# EAGLE library part HMC394LP4 (library microwave)
GaAs HBT PROGRAMMABLE 5-BIT COUNTER, DC - 2.2 GHz Source: http://www.hittite.com/product_info/product_specs/dividersdetectors/hmc394lp4.pdf
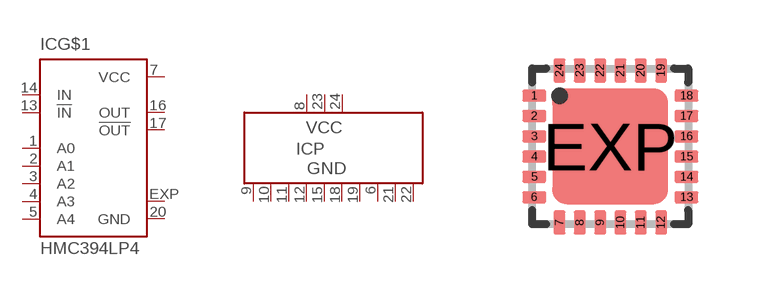
[diagram p0: symbol with the pads of QFN24; footprint QFN24]

Designator prefix IC; gates G$1=HMC394LP4 P=P3VCC10GND

## HMC394LP4  [QFN24]
1  G$1:A0  in
2  G$1:A1  in
3  G$1:A2  in
4  G$1:A3  in
5  G$1:A4  in
6  P:GND  pwr
7  G$1:VCC  pwr
8  P:VCC  pwr
9  P:GND  pwr
10  P:GND  pwr
11  P:GND  pwr
12  P:GND  pwr
13  G$1:!IN  in
14  G$1:IN  in
15  P:GND  pwr
16  G$1:OUT  out
17  G$1:!OUT  out
18  P:GND  pwr
19  P:GND  pwr
20  G$1:GND  pwr
21  P:GND  pwr
22  P:GND  pwr
23  P:VCC  pwr
24  P:VCC  pwr
EXP  G$1:EXP  pas

## Footprint QFN24 (pad centres in mm)
QFN 4x4 mm Source: http://www.hittite.com/product_info/product_specs/dividersdetectors/hmc394lp4.pdf
smd 0.6 x 0.3: 1 -1.905,1.27; 2 -1.905,0.762; 3 -1.905,0.254; 4 -1.905,-0.254; 5 -1.905,-0.762; 6 -1.905,-1.27; 13 1.905,-1.27; 14 1.905,-0.762; 15 1.905,-0.254; 16 1.905,0.254; 17 1.905,0.762; 18 1.905,1.27
smd 0.3 x 0.6: 7 -1.27,-1.905; 8 -0.762,-1.905; 9 -0.254,-1.905; 10 0.254,-1.905; 11 0.762,-1.905; 12 1.27,-1.905; 19 1.27,1.905; 20 0.762,1.905; 21 0.254,1.905; 22 -0.254,1.905; 23 -0.762,1.905; 24 -1.27,1.905
smd 2.9 x 2.9: EXP 0,0